# Altium footprint library 蜂鸣器.PcbLib: 5 footprints
Each footprint in its own frame and in the unit in brackets; x right, y up, seen from the top. Pads: shape width x height; smd on the part's side, far side on the other; paste and mask are expansions set on the pad; w line width, h text height; cw(c..) or ccw(c..) is an arc to the next point about the centre after c.
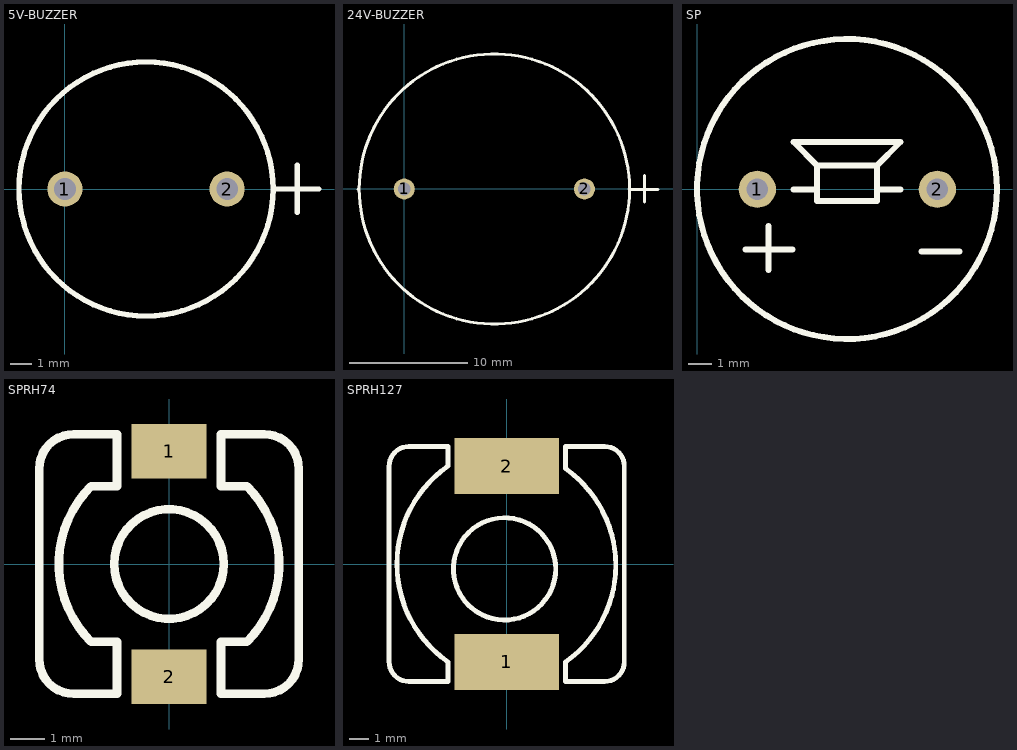
[diagram p0: the footprints below, top view; thin cyan lines are the x and y axes]

## 5V-BUZZER [mil]
pads (2):
  round 65 hole 40: 1(0,0) 2(300,0)
Top Overlay:
  circle w10: c150,0 r235
  lines w10: 385,0 470,0 ; 430,-43 430,44

## 24V-BUZZER [mil]
pads (2):
  round 70 hole 42: 1(0,0) 2(600,0)
Top Overlay:
  circle w10: c300,0 r450
  lines w10: -154,-1 -151,2 ; 749,0 750,-1 845,-1 ; 800,-43 800,45

## SP [mil]
pads (2):
  round 62 hole 36: 1(100,0) 2(400,0)
Top Overlay:
  circle w10: c249.45,0.43 r250
  lines w10: 80.55,-100.47 158.94,-100.47 ; 118.66,-134.69 118.66,-61.06 ; 160.39,-0.43 199.76,-0.43 ; 299.21,0 338.58,0 ; 373.74,-103.94 436.97,-103.94 ; 199.76,39.37 160.67,78.82 338.58,78.74 299.21,39.37 ; 199.76,39.37 199.76,-19.68 299.21,-19.68 299.21,39.37 ; 199.76,39.37 299.21,39.37

## SPRH74 [mm]
pads (2):
  rect 2.2x1.6 smd: 1(0,3.302) 2(0,-3.302)
Top Overlay:
  circle w0.254: c0,0 r1.606
  lines w0.254: -3.81,-2.794 ccw(c-2.794,-2.794) -2.794,-3.81 -1.524,-3.81 -1.524,-2.286 -2.286,-2.286 cw(c0,0) -2.286,2.286 -1.524,2.286 -1.524,3.81 -2.794,3.81 ccw(c-2.794,2.794) -3.81,2.794 -3.81,-2.794 ; 1.524,-3.81 1.524,-2.286 2.286,-2.286 ccw(c0,0) 2.286,2.286 1.524,2.286 1.524,3.81 2.794,3.81 cw(c2.794,2.794) 3.81,2.794 3.81,-2.794 cw(c2.794,-2.794) 2.794,-3.81 1.524,-3.81

## SPRH127 [mm]
pads (2):
  rect 5.4x2.9 smd: 1(0,-5.08) 2(0,5.08)
Top Overlay:
  circle w0.254: c-0.112,-0.254 r2.652
  lines w0.254: -6.096,-5.08 ccw(c-5.08,-5.08) -5.08,-6.096 -3.048,-6.096 -3.048,-5.08 cw(c0.508,0) -3.048,5.08 -3.048,6.096 -5.08,6.096 ccw(c-5.08,5.08) -6.096,5.08 -6.096,-5.08 ; 3.048,-6.096 3.048,-5.08 ccw(c-0.46,-0.069) 3.048,4.943 3.048,6.096 5.08,6.096 cw(c5.08,5.08) 6.096,5.08 6.096,-5.08 cw(c5.08,-5.08) 5.08,-6.096 3.048,-6.096